# Altium schematic symbol library SN-GCJA5L.SchLib: 1 symbol
Pins are listed as number, name and electrical type; pins without a type are passive.

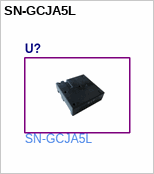
[diagram p0: symbol SN-GCJA5L]

## SN-GCJA5L
designator U?  Manufacturer Part Number: SN-GCJA5L  (hidden comment: *)